# Altium footprint library C(18.0x9.0h17.5)PCM15.PcbLib: 1 footprints
Each footprint in its own frame and in the unit in brackets; x right, y up, seen from the top. Pads: shape width x height; smd on the part's side, far side on the other; paste and mask are expansions set on the pad; w line width, h text height; cw(c..) or ccw(c..) is an arc to the next point about the centre after c.
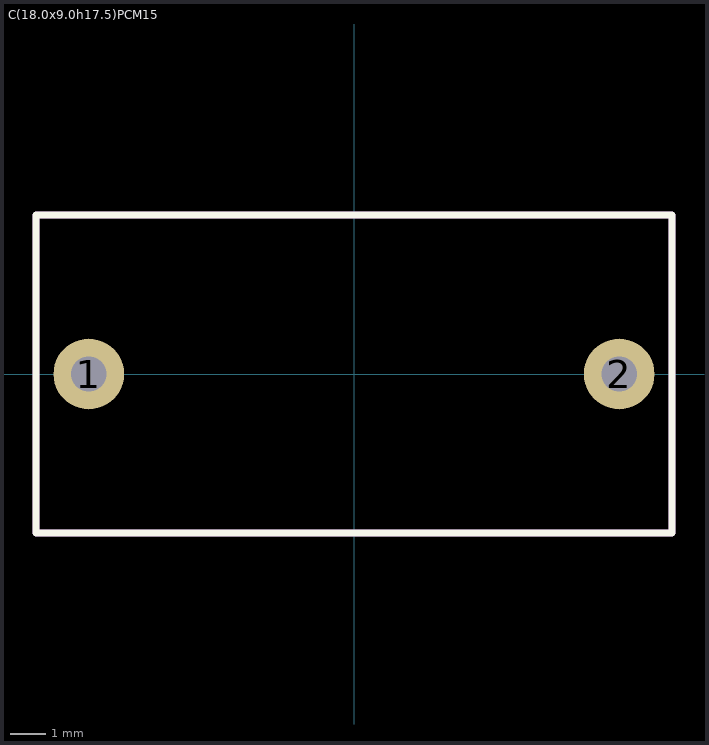
[diagram p0: the footprint, top view; thin cyan lines are the x and y axes]

## C(18.0x9.0h17.5)PCM15 [mm]
pads (2):
  round 2 hole 1: 1(-7.5,0) 2(7.5,0)
Top Overlay:
  lines w0.2: -9,-4.5 9,-4.5 9,4.5 -9,4.5 -9,-4.5
Top Assembly:
  lines w0.2: -9,-4.5 9,-4.5 9,4.5 -9,4.5 -9,-4.5
3D body "User Library-FILM_BLUE_P1500L1800W900H1750PD80.step": height 17.5, standoff -5, extent -9,-4.5 9,4.5